# EAGLE library part 90325-0008 (library Molex_By_element14_Batch_1)
HEADER
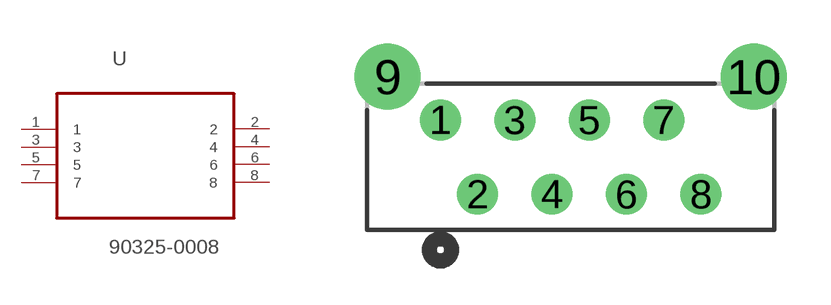
[diagram p36: symbol with the pads of MOLEX_90325-0008; footprint MOLEX_90325-0008]

Designator prefix U

## 90325-0008 (MPN: 90325-0008; OC_FARNELL: 673237; OC_NEWARK: 46WX960; PACKAGE: HEADER, 1.27MM, 8 WAY; SUPPLIER: Molex)  [MOLEX_90325-0008]
1  1  pas
2  2  pas
3  3  pas
4  4  pas
5  5  pas
6  6  pas
7  7  pas
8  8  pas

## Footprint MOLEX_90325-0008 (pad centres in mm)
drill 0.889: 1 0,5.08; 2 1.27,2.54; 3 2.54,5.08; 4 3.81,2.54; 5 5.08,5.08; 6 6.35,2.54; 7 7.62,5.08; 8 8.89,2.54
drill 1.499: 9 -1.803,6.553; 10 10.693,6.553